# Altium footprint library WAVE-20855-Core1262.PcbLib: 1 footprints
Each footprint in its own frame and in the unit in brackets; x right, y up, seen from the top. Pads: shape width x height; smd on the part's side, far side on the other; paste and mask are expansions set on the pad; w line width, h text height; cw(c..) or ccw(c..) is an arc to the next point about the centre after c.
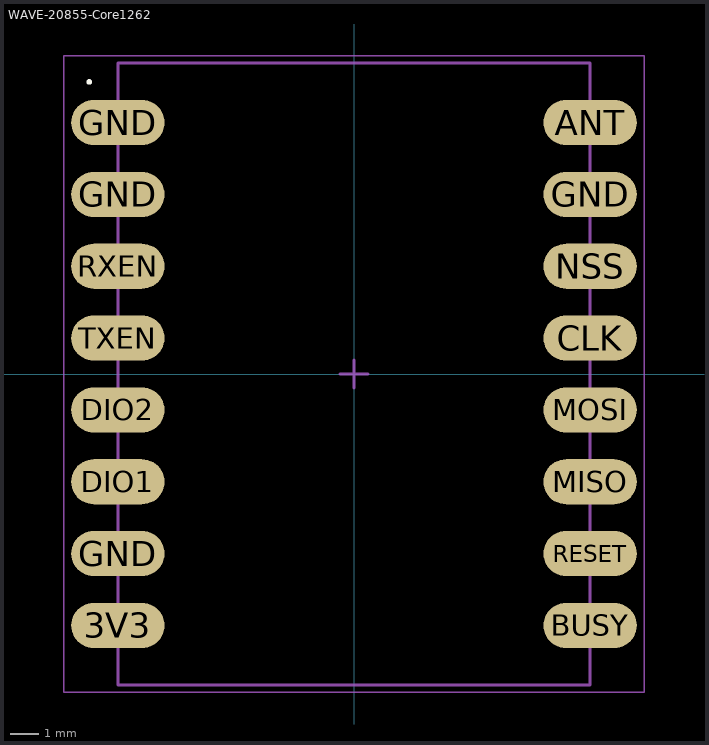
[diagram p0: the footprint, top view; thin cyan lines are the x and y axes]

## WAVE-20855-Core1262 [mm] "Chip Array, Flat, 16-Leads, Pitch 2.54mm,  Body 22.00x19.00mm,  IPC Medium Density"
height 1.5
pads (16):
  oval 3.3x1.6 smd: 3V3(-8.35,-8.89) ANT(8.35,8.89) BUSY(8.35,-8.89) CLK(8.35,1.27) DIO1(-8.35,-3.81) DIO2(-8.35,-1.27) GND(-8.35,-6.35) GND(-8.35,6.35) GND(-8.35,8.89) GND(8.35,6.35) MISO(8.35,-3.81) MOSI(8.35,-1.27) NSS(8.35,3.81) RESET(8.35,-6.35) RXEN(-8.35,3.81) TXEN(-8.35,1.27)
Top Overlay:
  circle w0.1: c-9.362,10.328 r0.05
Mechanical 13:
  lines w0.1: -8.35,-11 8.35,-11 8.35,11 -8.35,11 -8.35,-11
Mechanical 15:
  lines w0.05: -10.27,-11.25 10.27,-11.25 10.27,11.25 -10.27,11.25 -10.27,-11.25
  lines w0.1: -0.5,0 0.5,0 ; 0,-0.5 0,0.5
3D body "Core126X.step": height 2.8, standoff 0.08, extent -9.525,-10.975 9.475,11.025